# EAGLE library part NUP4201DR2 (library my_ic)
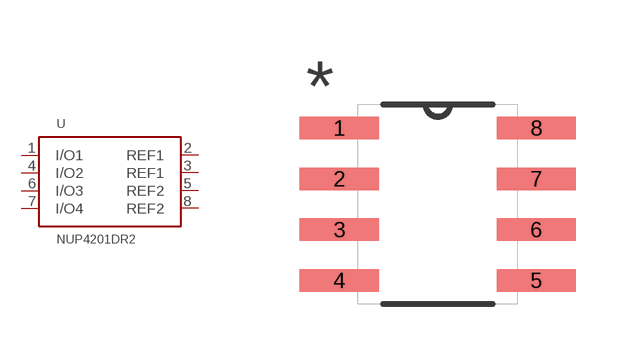
[diagram p2: symbol with the pads of SOIC-8; footprint SOIC-8]

Designator prefix -

## NUP4201DR2  [SOIC-8]
1  I/O1
2  REF1  pas
3  REF1  pas
4  I/O2
5  REF2  pas
6  I/O3
7  I/O4
8  REF2  pas

## Footprint SOIC-8 (pad centres in mm)
smd 1.981 x 0.559: 1 -2.464,1.905; 2 -2.464,0.635; 3 -2.464,-0.635; 4 -2.464,-1.905; 5 2.464,-1.905; 6 2.464,-0.635; 7 2.464,0.635; 8 2.464,1.905